# Altium schematic symbol library Interface_I2C.SchLib: 424 symbols (part 10 of 23)
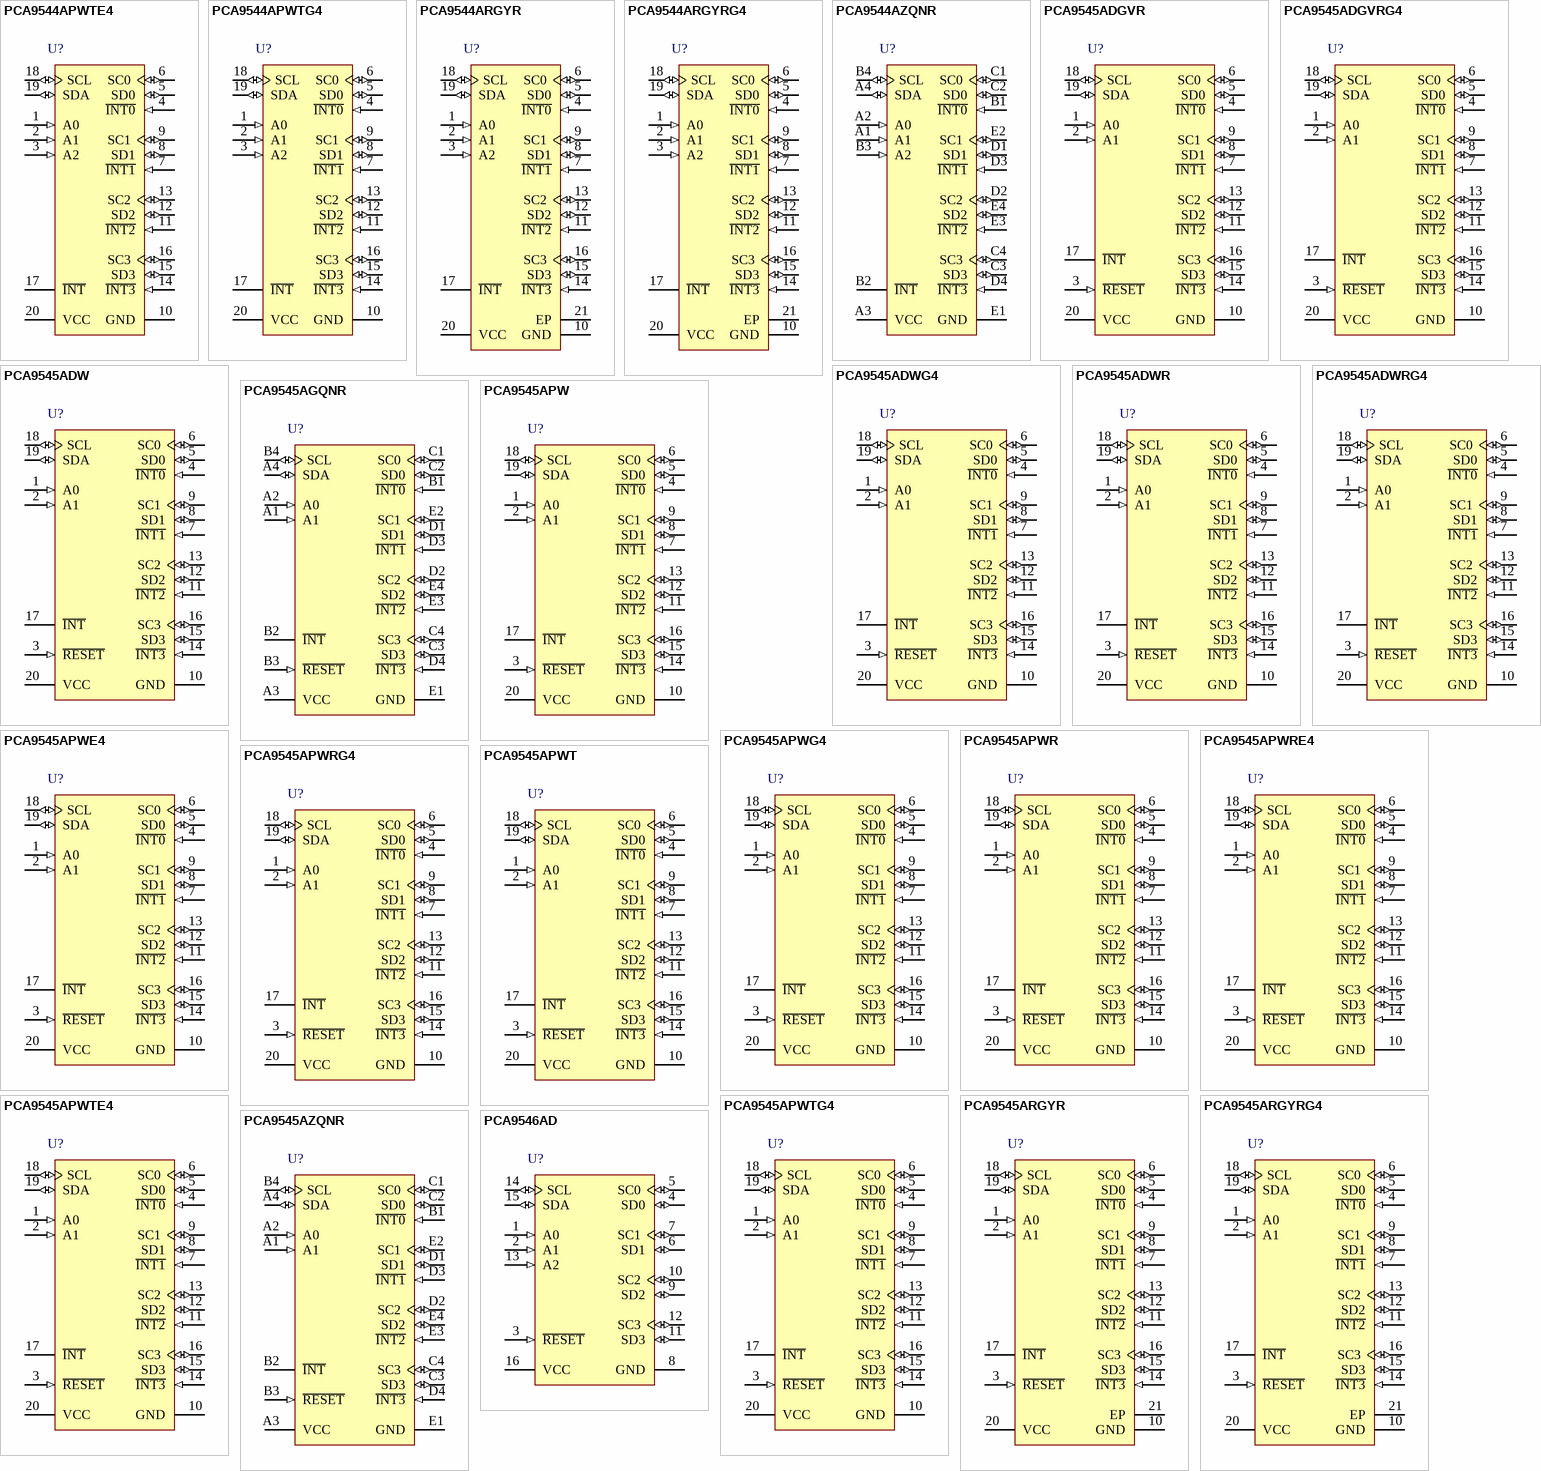
[diagram p22: symbols PCA9544APWTE4 to PCA9546AD]

## PCA9545APW
designator U?
4-Channel I2C and SMBus Multiplexer with Interrupt Logic and Reset Functions, 2.3 to 5.5 V, -40 to 85 degC, 20-pin TSSOP (PW), Green (RoHS & no Sb/Br); Manufacturer: Texas Instruments; PartNumber: PCA9545APW; SubFamily: I2C Multiplexer, Switch; tpd max(ns): 1; Interrupt Output: Yes; fSCLK(Max)(MHz): 400; VCC(Min)(V): 2.3; VCC(Max)(V): 5.5; I2C Address: 1110 0xx; Channel Width: 4; Simultaneously Active Channels: 1 to 4; DatasheetVersion: SCPS147C; PackageVersion: revG, Feb-2011; PackageReference: PW20; PackageDescription: 20-Pin Plastic Thin Small Outline Package 6.5 x 4.4 mm Body ,0.65 mm Pitch; Supplier 1: Digi-Key; Supplier Part Number 1: PCA9545APWTI-ND; Supplier 2: Farnell; Supplier Part Number 2: 1652260; Supplier 3: Newark; Supplier Part Number 3: 66K4030; Supplier 4: Mouser; Supplier Part Number 4: 595-PCA9545APW; Eco-Plan: Green (RoHS & no Sb/Br); Max Frequency(kHz): 400; Vcc range(V): 2.3 to 5.5; Reset Input: Yes; 5V Tolerant I/O: Yes; Open Drain I/O Type: Yes; Mounting Technology: Surface Mount; Code_JEDEC: MO-153; ComponentLink1Description: Datasheet; ComponentLink1URL: http://www.ti.com/general/docs/lit/getliterature.tsp?genericPartNumber=PCA9545A&fileType=pdf
footprint PW20_N (TSOP, 20-Leads, Body 6.5x4.4mm, Pitch 0.65mm, IPC Medium Density)
footprint PW20_L (TSOP, 20-Leads, Body 6.5x4.4mm, Pitch 0.65mm, IPC High Density)
footprint PW20_M (TSOP, 20-Leads, Body 6.5x4.4mm, Pitch 0.65mm, IPC Low Density)
pins: 1 A0 (in) "Address input 0. Connect directly to VCC or ground.", 2 A1 (in) "Address input 1. Connect directly to VCC or ground.", 3 ~{RESET} (in) "Active-low reset input. Connect to VCC through a pullup resistor, if not used.", 4 ~{INT0} (in) "Active-low interrupt input 0. Connect to VCC through a pullup resistor.", 5 SD0 (io) "Serial data 0. Connect to VCC through a pullup resistor.", 6 SC0 (io) "Serial clock 0. Connect to VCC through a pullup resistor.", 7 ~{INT1} (in) "Active-low interrupt input 1. Connect to VCC through a pullup resistor.", 8 SD1 (io) "Serial data 1. Connect to VCC through a pullup resistor.", 9 SC1 (io) "Serial clock 1. Connect to VCC through a pullup resistor.", 10 GND (power) "Ground", 11 ~{INT2} (in) "Active-low interrupt input 2. Connect to VCC through a pullup resistor.", 12 SD2 (io) "Serial data 2. Connect to VCC through a pullup resistor.", 13 SC2 (io) "Serial clock 2. Connect to VCC through a pullup resistor.", 14 ~{INT3} (in) "Active-low interrupt input 3. Connect to VCC through a pullup resistor.", 15 SD3 (io) "Serial data 3. Connect to VCC through a pullup resistor.", 16 SC3 (io) "Serial clock 3. Connect to VCC through a pullup resistor.", 17 ~{INT} (oc) "Active-low interrupt output. Connect to VCC through a pullup resistor.", 18 SCL (io) "Serial clock line. Connect to VCC through a pullup resistor.", 19 SDA (io) "Serial data line. Connect to VCC through a pullup resistor.", 20 VCC (power) "Supply power"

## PCA9545APWE4
designator U?
4-Channel I2C and SMBus Multiplexer with Interrupt Logic and Reset Functions, 2.3 to 5.5 V, -40 to 85 degC, 20-pin TSSOP (PW), Green (RoHS & no Sb/Br); Manufacturer: Texas Instruments; PartNumber: PCA9545APWE4; SubFamily: I2C Multiplexer, Switch; tpd max(ns): 1; Interrupt Output: Yes; fSCLK(Max)(MHz): 400; VCC(Min)(V): 2.3; VCC(Max)(V): 5.5; I2C Address: 1110 0xx; Channel Width: 4; Simultaneously Active Channels: 1 to 4; DatasheetVersion: SCPS147C; PackageVersion: revG, Feb-2011; PackageReference: PW20; PackageDescription: 20-Pin Plastic Thin Small Outline Package 6.5 x 4.4 mm Body ,0.65 mm Pitch; Supplier 1: Digi-Key; Supplier Part Number 1: PCA9545APWE4-ND; Supplier 2: Mouser; Supplier Part Number 2: 595-PCA9545APWE4; Eco-Plan: Green (RoHS & no Sb/Br); Max Frequency(kHz): 400; Vcc range(V): 2.3 to 5.5; Reset Input: Yes; 5V Tolerant I/O: Yes; Open Drain I/O Type: Yes; Mounting Technology: Surface Mount; Code_JEDEC: MO-153; ComponentLink1Description: Datasheet; ComponentLink1URL: http://www.ti.com/general/docs/lit/getliterature.tsp?genericPartNumber=PCA9545A&fileType=pdf
footprint PW20_N (TSOP, 20-Leads, Body 6.5x4.4mm, Pitch 0.65mm, IPC Medium Density)
footprint PW20_L (TSOP, 20-Leads, Body 6.5x4.4mm, Pitch 0.65mm, IPC High Density)
footprint PW20_M (TSOP, 20-Leads, Body 6.5x4.4mm, Pitch 0.65mm, IPC Low Density)
pins: 1 A0 (in) "Address input 0. Connect directly to VCC or ground.", 2 A1 (in) "Address input 1. Connect directly to VCC or ground.", 3 ~{RESET} (in) "Active-low reset input. Connect to VCC through a pullup resistor, if not used.", 4 ~{INT0} (in) "Active-low interrupt input 0. Connect to VCC through a pullup resistor.", 5 SD0 (io) "Serial data 0. Connect to VCC through a pullup resistor.", 6 SC0 (io) "Serial clock 0. Connect to VCC through a pullup resistor.", 7 ~{INT1} (in) "Active-low interrupt input 1. Connect to VCC through a pullup resistor.", 8 SD1 (io) "Serial data 1. Connect to VCC through a pullup resistor.", 9 SC1 (io) "Serial clock 1. Connect to VCC through a pullup resistor.", 10 GND (power) "Ground", 11 ~{INT2} (in) "Active-low interrupt input 2. Connect to VCC through a pullup resistor.", 12 SD2 (io) "Serial data 2. Connect to VCC through a pullup resistor.", 13 SC2 (io) "Serial clock 2. Connect to VCC through a pullup resistor.", 14 ~{INT3} (in) "Active-low interrupt input 3. Connect to VCC through a pullup resistor.", 15 SD3 (io) "Serial data 3. Connect to VCC through a pullup resistor.", 16 SC3 (io) "Serial clock 3. Connect to VCC through a pullup resistor.", 17 ~{INT} (oc) "Active-low interrupt output. Connect to VCC through a pullup resistor.", 18 SCL (io) "Serial clock line. Connect to VCC through a pullup resistor.", 19 SDA (io) "Serial data line. Connect to VCC through a pullup resistor.", 20 VCC (power) "Supply power"

## PCA9545APWG4
designator U?
4-Channel I2C and SMBus Multiplexer with Interrupt Logic and Reset Functions, 2.3 to 5.5 V, -40 to 85 degC, 20-pin TSSOP (PW), Green (RoHS & no Sb/Br); Manufacturer: Texas Instruments; PartNumber: PCA9545APWG4; SubFamily: I2C Multiplexer, Switch; tpd max(ns): 1; Interrupt Output: Yes; fSCLK(Max)(MHz): 400; VCC(Min)(V): 2.3; VCC(Max)(V): 5.5; I2C Address: 1110 0xx; Channel Width: 4; Simultaneously Active Channels: 1 to 4; DatasheetVersion: SCPS147C; PackageVersion: revG, Feb-2011; PackageReference: PW20; PackageDescription: 20-Pin Plastic Thin Small Outline Package 6.5 x 4.4 mm Body ,0.65 mm Pitch; Supplier 1: Digi-Key; Supplier Part Number 1: PCA9545APWG4-ND; Supplier 2: Mouser; Supplier Part Number 2: 595-PCA9545APWG4; Eco-Plan: Green (RoHS & no Sb/Br); Max Frequency(kHz): 400; Vcc range(V): 2.3 to 5.5; Reset Input: Yes; 5V Tolerant I/O: Yes; Open Drain I/O Type: Yes; Mounting Technology: Surface Mount; Code_JEDEC: MO-153; ComponentLink1Description: Datasheet; ComponentLink1URL: http://www.ti.com/general/docs/lit/getliterature.tsp?genericPartNumber=PCA9545A&fileType=pdf
footprint PW20_N (TSOP, 20-Leads, Body 6.5x4.4mm, Pitch 0.65mm, IPC Medium Density)
footprint PW20_L (TSOP, 20-Leads, Body 6.5x4.4mm, Pitch 0.65mm, IPC High Density)
footprint PW20_M (TSOP, 20-Leads, Body 6.5x4.4mm, Pitch 0.65mm, IPC Low Density)
pins: 1 A0 (in) "Address input 0. Connect directly to VCC or ground.", 2 A1 (in) "Address input 1. Connect directly to VCC or ground.", 3 ~{RESET} (in) "Active-low reset input. Connect to VCC through a pullup resistor, if not used.", 4 ~{INT0} (in) "Active-low interrupt input 0. Connect to VCC through a pullup resistor.", 5 SD0 (io) "Serial data 0. Connect to VCC through a pullup resistor.", 6 SC0 (io) "Serial clock 0. Connect to VCC through a pullup resistor.", 7 ~{INT1} (in) "Active-low interrupt input 1. Connect to VCC through a pullup resistor.", 8 SD1 (io) "Serial data 1. Connect to VCC through a pullup resistor.", 9 SC1 (io) "Serial clock 1. Connect to VCC through a pullup resistor.", 10 GND (power) "Ground", 11 ~{INT2} (in) "Active-low interrupt input 2. Connect to VCC through a pullup resistor.", 12 SD2 (io) "Serial data 2. Connect to VCC through a pullup resistor.", 13 SC2 (io) "Serial clock 2. Connect to VCC through a pullup resistor.", 14 ~{INT3} (in) "Active-low interrupt input 3. Connect to VCC through a pullup resistor.", 15 SD3 (io) "Serial data 3. Connect to VCC through a pullup resistor.", 16 SC3 (io) "Serial clock 3. Connect to VCC through a pullup resistor.", 17 ~{INT} (oc) "Active-low interrupt output. Connect to VCC through a pullup resistor.", 18 SCL (io) "Serial clock line. Connect to VCC through a pullup resistor.", 19 SDA (io) "Serial data line. Connect to VCC through a pullup resistor.", 20 VCC (power) "Supply power"

## PCA9545APWR
designator U?
4-Channel I2C and SMBus Multiplexer with Interrupt Logic and Reset Functions, 2.3 to 5.5 V, -40 to 85 degC, 20-pin TSSOP (PW), Green (RoHS & no Sb/Br); Manufacturer: Texas Instruments; PartNumber: PCA9545APWR; SubFamily: I2C Multiplexer, Switch; tpd max(ns): 1; Interrupt Output: Yes; fSCLK(Max)(MHz): 400; VCC(Min)(V): 2.3; VCC(Max)(V): 5.5; I2C Address: 1110 0xx; Channel Width: 4; Simultaneously Active Channels: 1 to 4; DatasheetVersion: SCPS147C; PackageVersion: revG, Feb-2011; PackageReference: PW20; PackageDescription: 20-Pin Plastic Thin Small Outline Package 6.5 x 4.4 mm Body ,0.65 mm Pitch; Supplier 1: Digi-Key; Supplier Part Number 1: 296-20963-2-ND; Supplier 2: Digi-Key; Supplier Part Number 2: 296-20963-1-ND; Supplier 3: Digi-Key; Supplier Part Number 3: 296-20963-6-ND; Supplier 4: Newark; Supplier Part Number 4: 66K4031; Supplier 5: Mouser; Supplier Part Number 5: 595-PCA9545APWR; Eco-Plan: Green (RoHS & no Sb/Br); Max Frequency(kHz): 400; Vcc range(V): 2.3 to 5.5; Reset Input: Yes; 5V Tolerant I/O: Yes; Open Drain I/O Type: Yes; Mounting Technology: Surface Mount; Code_JEDEC: MO-153; ComponentLink1Description: Datasheet; ComponentLink1URL: http://www.ti.com/general/docs/lit/getliterature.tsp?genericPartNumber=PCA9545A&fileType=pdf
footprint PW20_N (TSOP, 20-Leads, Body 6.5x4.4mm, Pitch 0.65mm, IPC Medium Density)
footprint PW20_L (TSOP, 20-Leads, Body 6.5x4.4mm, Pitch 0.65mm, IPC High Density)
footprint PW20_M (TSOP, 20-Leads, Body 6.5x4.4mm, Pitch 0.65mm, IPC Low Density)
pins: 1 A0 (in) "Address input 0. Connect directly to VCC or ground.", 2 A1 (in) "Address input 1. Connect directly to VCC or ground.", 3 ~{RESET} (in) "Active-low reset input. Connect to VCC through a pullup resistor, if not used.", 4 ~{INT0} (in) "Active-low interrupt input 0. Connect to VCC through a pullup resistor.", 5 SD0 (io) "Serial data 0. Connect to VCC through a pullup resistor.", 6 SC0 (io) "Serial clock 0. Connect to VCC through a pullup resistor.", 7 ~{INT1} (in) "Active-low interrupt input 1. Connect to VCC through a pullup resistor.", 8 SD1 (io) "Serial data 1. Connect to VCC through a pullup resistor.", 9 SC1 (io) "Serial clock 1. Connect to VCC through a pullup resistor.", 10 GND (power) "Ground", 11 ~{INT2} (in) "Active-low interrupt input 2. Connect to VCC through a pullup resistor.", 12 SD2 (io) "Serial data 2. Connect to VCC through a pullup resistor.", 13 SC2 (io) "Serial clock 2. Connect to VCC through a pullup resistor.", 14 ~{INT3} (in) "Active-low interrupt input 3. Connect to VCC through a pullup resistor.", 15 SD3 (io) "Serial data 3. Connect to VCC through a pullup resistor.", 16 SC3 (io) "Serial clock 3. Connect to VCC through a pullup resistor.", 17 ~{INT} (oc) "Active-low interrupt output. Connect to VCC through a pullup resistor.", 18 SCL (io) "Serial clock line. Connect to VCC through a pullup resistor.", 19 SDA (io) "Serial data line. Connect to VCC through a pullup resistor.", 20 VCC (power) "Supply power"

## PCA9545APWRE4
designator U?
4-Channel I2C and SMBus Multiplexer with Interrupt Logic and Reset Functions, 2.3 to 5.5 V, -40 to 85 degC, 20-pin TSSOP (PW), Green (RoHS & no Sb/Br); Manufacturer: Texas Instruments; PartNumber: PCA9545APWRE4; SubFamily: I2C Multiplexer, Switch; tpd max(ns): 1; Interrupt Output: Yes; fSCLK(Max)(MHz): 400; VCC(Min)(V): 2.3; VCC(Max)(V): 5.5; I2C Address: 1110 0xx; Channel Width: 4; Simultaneously Active Channels: 1 to 4; DatasheetVersion: SCPS147C; PackageVersion: revG, Feb-2011; PackageReference: PW20; PackageDescription: 20-Pin Plastic Thin Small Outline Package 6.5 x 4.4 mm Body ,0.65 mm Pitch; Supplier 1: Digi-Key; Supplier Part Number 1: PCA9545APWRE4-ND; Supplier 2: Mouser; Supplier Part Number 2: 595-PCA9545APWRE4; Eco-Plan: Green (RoHS & no Sb/Br); Max Frequency(kHz): 400; Vcc range(V): 2.3 to 5.5; Reset Input: Yes; 5V Tolerant I/O: Yes; Open Drain I/O Type: Yes; Mounting Technology: Surface Mount; Code_JEDEC: MO-153; ComponentLink1Description: Datasheet; ComponentLink1URL: http://www.ti.com/general/docs/lit/getliterature.tsp?genericPartNumber=PCA9545A&fileType=pdf
footprint PW20_N (TSOP, 20-Leads, Body 6.5x4.4mm, Pitch 0.65mm, IPC Medium Density)
footprint PW20_L (TSOP, 20-Leads, Body 6.5x4.4mm, Pitch 0.65mm, IPC High Density)
footprint PW20_M (TSOP, 20-Leads, Body 6.5x4.4mm, Pitch 0.65mm, IPC Low Density)
pins: 1 A0 (in) "Address input 0. Connect directly to VCC or ground.", 2 A1 (in) "Address input 1. Connect directly to VCC or ground.", 3 ~{RESET} (in) "Active-low reset input. Connect to VCC through a pullup resistor, if not used.", 4 ~{INT0} (in) "Active-low interrupt input 0. Connect to VCC through a pullup resistor.", 5 SD0 (io) "Serial data 0. Connect to VCC through a pullup resistor.", 6 SC0 (io) "Serial clock 0. Connect to VCC through a pullup resistor.", 7 ~{INT1} (in) "Active-low interrupt input 1. Connect to VCC through a pullup resistor.", 8 SD1 (io) "Serial data 1. Connect to VCC through a pullup resistor.", 9 SC1 (io) "Serial clock 1. Connect to VCC through a pullup resistor.", 10 GND (power) "Ground", 11 ~{INT2} (in) "Active-low interrupt input 2. Connect to VCC through a pullup resistor.", 12 SD2 (io) "Serial data 2. Connect to VCC through a pullup resistor.", 13 SC2 (io) "Serial clock 2. Connect to VCC through a pullup resistor.", 14 ~{INT3} (in) "Active-low interrupt input 3. Connect to VCC through a pullup resistor.", 15 SD3 (io) "Serial data 3. Connect to VCC through a pullup resistor.", 16 SC3 (io) "Serial clock 3. Connect to VCC through a pullup resistor.", 17 ~{INT} (oc) "Active-low interrupt output. Connect to VCC through a pullup resistor.", 18 SCL (io) "Serial clock line. Connect to VCC through a pullup resistor.", 19 SDA (io) "Serial data line. Connect to VCC through a pullup resistor.", 20 VCC (power) "Supply power"

## PCA9545APWRG4
designator U?
4-Channel I2C and SMBus Multiplexer with Interrupt Logic and Reset Functions, 2.3 to 5.5 V, -40 to 85 degC, 20-pin TSSOP (PW), Green (RoHS & no Sb/Br); Manufacturer: Texas Instruments; PartNumber: PCA9545APWRG4; SubFamily: I2C Multiplexer, Switch; tpd max(ns): 1; Interrupt Output: Yes; fSCLK(Max)(MHz): 400; VCC(Min)(V): 2.3; VCC(Max)(V): 5.5; I2C Address: 1110 0xx; Channel Width: 4; Simultaneously Active Channels: 1 to 4; DatasheetVersion: SCPS147C; PackageVersion: revG, Feb-2011; PackageReference: PW20; PackageDescription: 20-Pin Plastic Thin Small Outline Package 6.5 x 4.4 mm Body ,0.65 mm Pitch; Supplier 1: Digi-Key; Supplier Part Number 1: PCA9545APWRG4-ND; Supplier 2: Mouser; Supplier Part Number 2: 595-PCA9545APWRG4; Eco-Plan: Green (RoHS & no Sb/Br); Max Frequency(kHz): 400; Vcc range(V): 2.3 to 5.5; Reset Input: Yes; 5V Tolerant I/O: Yes; Open Drain I/O Type: Yes; Mounting Technology: Surface Mount; Code_JEDEC: MO-153; ComponentLink1Description: Datasheet; ComponentLink1URL: http://www.ti.com/general/docs/lit/getliterature.tsp?genericPartNumber=PCA9545A&fileType=pdf
footprint PW20_N (TSOP, 20-Leads, Body 6.5x4.4mm, Pitch 0.65mm, IPC Medium Density)
footprint PW20_L (TSOP, 20-Leads, Body 6.5x4.4mm, Pitch 0.65mm, IPC High Density)
footprint PW20_M (TSOP, 20-Leads, Body 6.5x4.4mm, Pitch 0.65mm, IPC Low Density)
pins: 1 A0 (in) "Address input 0. Connect directly to VCC or ground.", 2 A1 (in) "Address input 1. Connect directly to VCC or ground.", 3 ~{RESET} (in) "Active-low reset input. Connect to VCC through a pullup resistor, if not used.", 4 ~{INT0} (in) "Active-low interrupt input 0. Connect to VCC through a pullup resistor.", 5 SD0 (io) "Serial data 0. Connect to VCC through a pullup resistor.", 6 SC0 (io) "Serial clock 0. Connect to VCC through a pullup resistor.", 7 ~{INT1} (in) "Active-low interrupt input 1. Connect to VCC through a pullup resistor.", 8 SD1 (io) "Serial data 1. Connect to VCC through a pullup resistor.", 9 SC1 (io) "Serial clock 1. Connect to VCC through a pullup resistor.", 10 GND (power) "Ground", 11 ~{INT2} (in) "Active-low interrupt input 2. Connect to VCC through a pullup resistor.", 12 SD2 (io) "Serial data 2. Connect to VCC through a pullup resistor.", 13 SC2 (io) "Serial clock 2. Connect to VCC through a pullup resistor.", 14 ~{INT3} (in) "Active-low interrupt input 3. Connect to VCC through a pullup resistor.", 15 SD3 (io) "Serial data 3. Connect to VCC through a pullup resistor.", 16 SC3 (io) "Serial clock 3. Connect to VCC through a pullup resistor.", 17 ~{INT} (oc) "Active-low interrupt output. Connect to VCC through a pullup resistor.", 18 SCL (io) "Serial clock line. Connect to VCC through a pullup resistor.", 19 SDA (io) "Serial data line. Connect to VCC through a pullup resistor.", 20 VCC (power) "Supply power"

## PCA9545APWT
designator U?
4-Channel I2C and SMBus Multiplexer with Interrupt Logic and Reset Functions, 2.3 to 5.5 V, -40 to 85 degC, 20-pin TSSOP (PW), Green (RoHS & no Sb/Br); Manufacturer: Texas Instruments; PartNumber: PCA9545APWT; SubFamily: I2C Multiplexer, Switch; tpd max(ns): 1; Interrupt Output: Yes; fSCLK(Max)(MHz): 400; VCC(Min)(V): 2.3; VCC(Max)(V): 5.5; I2C Address: 1110 0xx; Channel Width: 4; Simultaneously Active Channels: 1 to 4; DatasheetVersion: SCPS147C; PackageVersion: revG, Feb-2011; PackageReference: PW20; PackageDescription: 20-Pin Plastic Thin Small Outline Package 6.5 x 4.4 mm Body ,0.65 mm Pitch; Supplier 1: Digi-Key; Supplier Part Number 1: PCA9545APWT-ND; Supplier 2: Mouser; Supplier Part Number 2: 595-PCA9545APWT; Eco-Plan: Green (RoHS & no Sb/Br); Max Frequency(kHz): 400; Vcc range(V): 2.3 to 5.5; Reset Input: Yes; 5V Tolerant I/O: Yes; Open Drain I/O Type: Yes; Mounting Technology: Surface Mount; Code_JEDEC: MO-153; ComponentLink1Description: Datasheet; ComponentLink1URL: http://www.ti.com/general/docs/lit/getliterature.tsp?genericPartNumber=PCA9545A&fileType=pdf
footprint PW20_N (TSOP, 20-Leads, Body 6.5x4.4mm, Pitch 0.65mm, IPC Medium Density)
footprint PW20_L (TSOP, 20-Leads, Body 6.5x4.4mm, Pitch 0.65mm, IPC High Density)
footprint PW20_M (TSOP, 20-Leads, Body 6.5x4.4mm, Pitch 0.65mm, IPC Low Density)
pins: 1 A0 (in) "Address input 0. Connect directly to VCC or ground.", 2 A1 (in) "Address input 1. Connect directly to VCC or ground.", 3 ~{RESET} (in) "Active-low reset input. Connect to VCC through a pullup resistor, if not used.", 4 ~{INT0} (in) "Active-low interrupt input 0. Connect to VCC through a pullup resistor.", 5 SD0 (io) "Serial data 0. Connect to VCC through a pullup resistor.", 6 SC0 (io) "Serial clock 0. Connect to VCC through a pullup resistor.", 7 ~{INT1} (in) "Active-low interrupt input 1. Connect to VCC through a pullup resistor.", 8 SD1 (io) "Serial data 1. Connect to VCC through a pullup resistor.", 9 SC1 (io) "Serial clock 1. Connect to VCC through a pullup resistor.", 10 GND (power) "Ground", 11 ~{INT2} (in) "Active-low interrupt input 2. Connect to VCC through a pullup resistor.", 12 SD2 (io) "Serial data 2. Connect to VCC through a pullup resistor.", 13 SC2 (io) "Serial clock 2. Connect to VCC through a pullup resistor.", 14 ~{INT3} (in) "Active-low interrupt input 3. Connect to VCC through a pullup resistor.", 15 SD3 (io) "Serial data 3. Connect to VCC through a pullup resistor.", 16 SC3 (io) "Serial clock 3. Connect to VCC through a pullup resistor.", 17 ~{INT} (oc) "Active-low interrupt output. Connect to VCC through a pullup resistor.", 18 SCL (io) "Serial clock line. Connect to VCC through a pullup resistor.", 19 SDA (io) "Serial data line. Connect to VCC through a pullup resistor.", 20 VCC (power) "Supply power"

## PCA9545APWTE4
designator U?
4-Channel I2C and SMBus Multiplexer with Interrupt Logic and Reset Functions, 2.3 to 5.5 V, -40 to 85 degC, 20-pin TSSOP (PW), Green (RoHS & no Sb/Br); Manufacturer: Texas Instruments; PartNumber: PCA9545APWTE4; SubFamily: I2C Multiplexer, Switch; tpd max(ns): 1; Interrupt Output: Yes; fSCLK(Max)(MHz): 400; VCC(Min)(V): 2.3; VCC(Max)(V): 5.5; I2C Address: 1110 0xx; Channel Width: 4; Simultaneously Active Channels: 1 to 4; DatasheetVersion: SCPS147C; PackageVersion: revG, Feb-2011; PackageReference: PW20; PackageDescription: 20-Pin Plastic Thin Small Outline Package 6.5 x 4.4 mm Body ,0.65 mm Pitch; Supplier 1: Digi-Key; Supplier Part Number 1: PCA9545APWTE4-ND; Supplier 2: Mouser; Supplier Part Number 2: 595-PCA9545APWTE4; Eco-Plan: Green (RoHS & no Sb/Br); Max Frequency(kHz): 400; Vcc range(V): 2.3 to 5.5; Reset Input: Yes; 5V Tolerant I/O: Yes; Open Drain I/O Type: Yes; Mounting Technology: Surface Mount; Code_JEDEC: MO-153; ComponentLink1Description: Datasheet; ComponentLink1URL: http://www.ti.com/general/docs/lit/getliterature.tsp?genericPartNumber=PCA9545A&fileType=pdf
footprint PW20_N (TSOP, 20-Leads, Body 6.5x4.4mm, Pitch 0.65mm, IPC Medium Density)
footprint PW20_L (TSOP, 20-Leads, Body 6.5x4.4mm, Pitch 0.65mm, IPC High Density)
footprint PW20_M (TSOP, 20-Leads, Body 6.5x4.4mm, Pitch 0.65mm, IPC Low Density)
pins: 1 A0 (in) "Address input 0. Connect directly to VCC or ground.", 2 A1 (in) "Address input 1. Connect directly to VCC or ground.", 3 ~{RESET} (in) "Active-low reset input. Connect to VCC through a pullup resistor, if not used.", 4 ~{INT0} (in) "Active-low interrupt input 0. Connect to VCC through a pullup resistor.", 5 SD0 (io) "Serial data 0. Connect to VCC through a pullup resistor.", 6 SC0 (io) "Serial clock 0. Connect to VCC through a pullup resistor.", 7 ~{INT1} (in) "Active-low interrupt input 1. Connect to VCC through a pullup resistor.", 8 SD1 (io) "Serial data 1. Connect to VCC through a pullup resistor.", 9 SC1 (io) "Serial clock 1. Connect to VCC through a pullup resistor.", 10 GND (power) "Ground", 11 ~{INT2} (in) "Active-low interrupt input 2. Connect to VCC through a pullup resistor.", 12 SD2 (io) "Serial data 2. Connect to VCC through a pullup resistor.", 13 SC2 (io) "Serial clock 2. Connect to VCC through a pullup resistor.", 14 ~{INT3} (in) "Active-low interrupt input 3. Connect to VCC through a pullup resistor.", 15 SD3 (io) "Serial data 3. Connect to VCC through a pullup resistor.", 16 SC3 (io) "Serial clock 3. Connect to VCC through a pullup resistor.", 17 ~{INT} (oc) "Active-low interrupt output. Connect to VCC through a pullup resistor.", 18 SCL (io) "Serial clock line. Connect to VCC through a pullup resistor.", 19 SDA (io) "Serial data line. Connect to VCC through a pullup resistor.", 20 VCC (power) "Supply power"

## PCA9545APWTG4
designator U?
4-Channel I2C and SMBus Multiplexer with Interrupt Logic and Reset Functions, 2.3 to 5.5 V, -40 to 85 degC, 20-pin TSSOP (PW), Green (RoHS & no Sb/Br); Manufacturer: Texas Instruments; PartNumber: PCA9545APWTG4; SubFamily: I2C Multiplexer, Switch; tpd max(ns): 1; Interrupt Output: Yes; fSCLK(Max)(MHz): 400; VCC(Min)(V): 2.3; VCC(Max)(V): 5.5; I2C Address: 1110 0xx; Channel Width: 4; Simultaneously Active Channels: 1 to 4; DatasheetVersion: SCPS147C; PackageVersion: revG, Feb-2011; PackageReference: PW20; PackageDescription: 20-Pin Plastic Thin Small Outline Package 6.5 x 4.4 mm Body ,0.65 mm Pitch; Supplier 1: Digi-Key; Supplier Part Number 1: PCA9545APWTG4-ND; Supplier 2: Mouser; Supplier Part Number 2: 595-PCA9545APWTG4; Eco-Plan: Green (RoHS & no Sb/Br); Max Frequency(kHz): 400; Vcc range(V): 2.3 to 5.5; Reset Input: Yes; 5V Tolerant I/O: Yes; Open Drain I/O Type: Yes; Mounting Technology: Surface Mount; Code_JEDEC: MO-153; ComponentLink1Description: Datasheet; ComponentLink1URL: http://www.ti.com/general/docs/lit/getliterature.tsp?genericPartNumber=PCA9545A&fileType=pdf
footprint PW20_N (TSOP, 20-Leads, Body 6.5x4.4mm, Pitch 0.65mm, IPC Medium Density)
footprint PW20_L (TSOP, 20-Leads, Body 6.5x4.4mm, Pitch 0.65mm, IPC High Density)
footprint PW20_M (TSOP, 20-Leads, Body 6.5x4.4mm, Pitch 0.65mm, IPC Low Density)
pins: 1 A0 (in) "Address input 0. Connect directly to VCC or ground.", 2 A1 (in) "Address input 1. Connect directly to VCC or ground.", 3 ~{RESET} (in) "Active-low reset input. Connect to VCC through a pullup resistor, if not used.", 4 ~{INT0} (in) "Active-low interrupt input 0. Connect to VCC through a pullup resistor.", 5 SD0 (io) "Serial data 0. Connect to VCC through a pullup resistor.", 6 SC0 (io) "Serial clock 0. Connect to VCC through a pullup resistor.", 7 ~{INT1} (in) "Active-low interrupt input 1. Connect to VCC through a pullup resistor.", 8 SD1 (io) "Serial data 1. Connect to VCC through a pullup resistor.", 9 SC1 (io) "Serial clock 1. Connect to VCC through a pullup resistor.", 10 GND (power) "Ground", 11 ~{INT2} (in) "Active-low interrupt input 2. Connect to VCC through a pullup resistor.", 12 SD2 (io) "Serial data 2. Connect to VCC through a pullup resistor.", 13 SC2 (io) "Serial clock 2. Connect to VCC through a pullup resistor.", 14 ~{INT3} (in) "Active-low interrupt input 3. Connect to VCC through a pullup resistor.", 15 SD3 (io) "Serial data 3. Connect to VCC through a pullup resistor.", 16 SC3 (io) "Serial clock 3. Connect to VCC through a pullup resistor.", 17 ~{INT} (oc) "Active-low interrupt output. Connect to VCC through a pullup resistor.", 18 SCL (io) "Serial clock line. Connect to VCC through a pullup resistor.", 19 SDA (io) "Serial data line. Connect to VCC through a pullup resistor.", 20 VCC (power) "Supply power"

## PCA9545ARGYR
designator U?
4-Channel I2C and SMBus Multiplexer with Interrupt Logic and Reset Function, 2.3 to 5.5 V, -40 to 85 degC, 20-pin VQFN (RGY), Green (RoHS & no Sb/Br); Manufacturer: Texas Instruments; PartNumber: PCA9545ARGYR; SubFamily: I2C Multiplexer, Switch; tpd max(ns): 1; Interrupt Output: Yes; fSCLK(Max)(MHz): 400; VCC(Min)(V): 2.3; VCC(Max)(V): 5.5; I2C Address: 1110 0xx; Channel Width: 4; Simultaneously Active Channels: 1 to 4; DatasheetVersion: SCPS147C; PackageVersion: revI, Jun-2011; PackageReference: RGY20-3050X2050TP; PackageDescription: 20-Leads Plastic Quad Flatpack No-Lead, 3.5 x 4.5 x 0.9 mm Body, 0.5 mm Pitch; Supplier 1: Digi-Key; Supplier Part Number 1: 296-20964-2-ND; Supplier 2: Digi-Key; Supplier Part Number 2: 296-20964-1-ND; Supplier 3: Digi-Key; Supplier Part Number 3: 296-20964-6-ND; Supplier 4: Mouser; Supplier Part Number 4: 595-PCA9545ARGYR; Eco-Plan: Green (RoHS & no Sb/Br); Max Frequency(kHz): 400; Vcc range(V): 2.3 to 5.5; Reset Input: Yes; 5V Tolerant I/O: Yes; Open Drain I/O Type: Yes; Mounting Technology: Surface Mount; Code_JEDEC: MO-241-BA; ComponentLink1Description: Datasheet; ComponentLink1URL: http://www.ti.com/general/docs/lit/getliterature.tsp?genericPartNumber=PCA9545A&fileType=pdf; ComponentLink2Description: Package Specification; ComponentLink2URL: http://www.ti.com/litv/pdf/mpss024a
footprint RGY20-3050X2050TP (QFN, 20-Leads, Body 4.5x3.5mm, Pitch 0.5mm, Thermal Pad 3.05x2.05mm, TI Recommended)
pins: 1 A0 (in) "Address input 0. Connect directly to VCC or ground.", 2 A1 (in) "Address input 1. Connect directly to VCC or ground.", 3 ~{RESET} (in) "Active-low reset input. Connect to VCC through a pullup resistor, if not used.", 4 ~{INT0} (in) "Active-low interrupt input 0. Connect to VCC through a pullup resistor.", 5 SD0 (io) "Serial data 0. Connect to VCC through a pullup resistor.", 6 SC0 (io) "Serial clock 0. Connect to VCC through a pullup resistor.", 7 ~{INT1} (in) "Active-low interrupt input 1. Connect to VCC through a pullup resistor.", 8 SD1 (io) "Serial data 1. Connect to VCC through a pullup resistor.", 9 SC1 (io) "Serial clock 1. Connect to VCC through a pullup resistor.", 10 GND (power) "Ground", 11 ~{INT2} (in) "Active-low interrupt input 2. Connect to VCC through a pullup resistor.", 12 SD2 (io) "Serial data 2. Connect to VCC through a pullup resistor.", 13 SC2 (io) "Serial clock 2. Connect to VCC through a pullup resistor.", 14 ~{INT3} (in) "Active-low interrupt input 3. Connect to VCC through a pullup resistor.", 15 SD3 (io) "Serial data 3. Connect to VCC through a pullup resistor.", 16 SC3 (io) "Serial clock 3. Connect to VCC through a pullup resistor.", 17 ~{INT} (oc) "Active-low interrupt output. Connect to VCC through a pullup resistor.", 18 SCL (io) "Serial clock line. Connect to VCC through a pullup resistor.", 19 SDA (io) "Serial data line. Connect to VCC through a pullup resistor.", 20 VCC (power) "Supply power", 21 EP "Exposed Thermal Pad"

## PCA9545ARGYRG4
designator U?
4-Channel I2C and SMBus Multiplexer with Interrupt Logic and Reset Function, 2.3 to 5.5 V, -40 to 85 degC, 20-pin VQFN (RGY), Green (RoHS & no Sb/Br); Manufacturer: Texas Instruments; PartNumber: PCA9545ARGYRG4; SubFamily: I2C Multiplexer, Switch; tpd max(ns): 1; Interrupt Output: Yes; fSCLK(Max)(MHz): 400; VCC(Min)(V): 2.3; VCC(Max)(V): 5.5; I2C Address: 1110 0xx; Channel Width: 4; Simultaneously Active Channels: 1 to 4; DatasheetVersion: SCPS147C; PackageVersion: revI, Jun-2011; PackageReference: RGY20-3050X2050TP; PackageDescription: 20-Leads Plastic Quad Flatpack No-Lead, 3.5 x 4.5 x 0.9 mm Body, 0.5 mm Pitch; Supplier 1: Digi-Key; Supplier Part Number 1: PCA9545ARGYRG4-ND; Supplier 2: Newark; Supplier Part Number 2: 20M5691; Supplier 3: Mouser; Supplier Part Number 3: 595-PCA9545ARGYRG4; Eco-Plan: Green (RoHS & no Sb/Br); Max Frequency(kHz): 400; Vcc range(V): 2.3 to 5.5; Reset Input: Yes; 5V Tolerant I/O: Yes; Open Drain I/O Type: Yes; Mounting Technology: Surface Mount; Code_JEDEC: MO-241-BA; ComponentLink1Description: Datasheet; ComponentLink1URL: http://www.ti.com/general/docs/lit/getliterature.tsp?genericPartNumber=PCA9545A&fileType=pdf; ComponentLink2Description: Package Specification; ComponentLink2URL: http://www.ti.com/litv/pdf/mpss024a
footprint RGY20-3050X2050TP (QFN, 20-Leads, Body 4.5x3.5mm, Pitch 0.5mm, Thermal Pad 3.05x2.05mm, TI Recommended)
pins: 1 A0 (in) "Address input 0. Connect directly to VCC or ground.", 2 A1 (in) "Address input 1. Connect directly to VCC or ground.", 3 ~{RESET} (in) "Active-low reset input. Connect to VCC through a pullup resistor, if not used.", 4 ~{INT0} (in) "Active-low interrupt input 0. Connect to VCC through a pullup resistor.", 5 SD0 (io) "Serial data 0. Connect to VCC through a pullup resistor.", 6 SC0 (io) "Serial clock 0. Connect to VCC through a pullup resistor.", 7 ~{INT1} (in) "Active-low interrupt input 1. Connect to VCC through a pullup resistor.", 8 SD1 (io) "Serial data 1. Connect to VCC through a pullup resistor.", 9 SC1 (io) "Serial clock 1. Connect to VCC through a pullup resistor.", 10 GND (power) "Ground", 11 ~{INT2} (in) "Active-low interrupt input 2. Connect to VCC through a pullup resistor.", 12 SD2 (io) "Serial data 2. Connect to VCC through a pullup resistor.", 13 SC2 (io) "Serial clock 2. Connect to VCC through a pullup resistor.", 14 ~{INT3} (in) "Active-low interrupt input 3. Connect to VCC through a pullup resistor.", 15 SD3 (io) "Serial data 3. Connect to VCC through a pullup resistor.", 16 SC3 (io) "Serial clock 3. Connect to VCC through a pullup resistor.", 17 ~{INT} (oc) "Active-low interrupt output. Connect to VCC through a pullup resistor.", 18 SCL (io) "Serial clock line. Connect to VCC through a pullup resistor.", 19 SDA (io) "Serial data line. Connect to VCC through a pullup resistor.", 20 VCC (power) "Supply power", 21 EP "Exposed Thermal Pad"

## PCA9545AZQNR
designator U?
4-Channel I2C and SMBus Multiplexer with Interrupt Logic and Reset Function, 2.3 to 5.5 V, -40 to 85 degC, 20-pin BGA MICROSTAR JUNIOR (ZQN), Green (RoHS & no Sb/Br); Manufacturer: Texas Instruments; PartNumber: PCA9545AZQNR; SubFamily: I2C Multiplexer, Switch; tpd max(ns): 1; Interrupt Output: Yes; fSCLK(Max)(MHz): 400; VCC(Min)(V): 2.3; VCC(Max)(V): 5.5; I2C Address: 1110 0xx; Channel Width: 4; Simultaneously Active Channels: 1 to 4; DatasheetVersion: SCPS147C; PackageVersion: revC, Jun-2007; PackageReference: ZQN20; PackageDescription: 20-Ball Plastic Ball Grid Array, 4 x 3 mm Body, 0.65 mm Pitch, Pb-Free; Supplier 1: Digi-Key; Supplier Part Number 1: 296-20965-2-ND; Supplier 2: Digi-Key; Supplier Part Number 2: 296-20965-1-ND; Supplier 3: Digi-Key; Supplier Part Number 3: 296-20965-6-ND; Supplier 4: Mouser; Supplier Part Number 4: 595-PCA9545AZQNR; Eco-Plan: Green (RoHS & no Sb/Br); Max Frequency(kHz): 400; Vcc range(V): 2.3 to 5.5; Reset Input: Yes; 5V Tolerant I/O: Yes; Open Drain I/O Type: Yes; Mounting Technology: Surface Mount; Code_JEDEC: MO-285-BC-2; ComponentLink1Description: Datasheet; ComponentLink1URL: http://www.ti.com/general/docs/lit/getliterature.tsp?genericPartNumber=PCA9545A&fileType=pdf; ComponentLink2Description: Package Specification; ComponentLink2URL: http://www.ti.com/litv/pdf/mpds006c
footprint ZQN20 (BGA, 20-Leads, Body 4x3mm, Pitch 0.65mm)
pins: A1 (in) "Address input 1. Connect directly to VCC or ground.", A2 A0 (in) "Address input 0. Connect directly to VCC or ground.", A3 VCC (power) "Supply power", A4 SDA (io) "Serial data line. Connect to VCC through a pullup resistor.", B1 ~{INT0} (in) "Active-low interrupt input 0. Connect to VCC through a pullup resistor.", B2 ~{INT} (oc) "Active-low interrupt output. Connect to VCC through a pullup resistor.", B3 ~{RESET} (in) "Active-low reset input. Connect to VCC through a pullup resistor, if not used.", B4 SCL (io) "Serial clock line. Connect to VCC through a pullup resistor.", C1 SC0 (io) "Serial clock 0. Connect to VCC through a pullup resistor.", C2 SD0 (io) "Serial data 0. Connect to VCC through a pullup resistor.", C3 SD3 (io) "Serial data 3. Connect to VCC through a pullup resistor.", C4 SC3 (io) "Serial clock 3. Connect to VCC through a pullup resistor.", D1 SD1 (io) "Serial data 1. Connect to VCC through a pullup resistor.", D2 SC2 (io) "Serial clock 2. Connect to VCC through a pullup resistor.", D3 ~{INT1} (in) "Active-low interrupt input 1. Connect to VCC through a pullup resistor.", D4 ~{INT3} (in) "Active-low interrupt input 3. Connect to VCC through a pullup resistor.", E1 GND (power) "Ground", E2 SC1 (io) "Serial clock 1. Connect to VCC through a pullup resistor.", E3 ~{INT2} (in) "Active-low interrupt input 2. Connect to VCC through a pullup resistor.", E4 SD2 (io) "Serial data 2. Connect to VCC through a pullup resistor."

## PCA9546AD
designator U?
4-Channel I2C and SMBus Multiplexer with Reset Functions, 2.3 to 5.5 V, -40 to 85 degC, 16-pin SOIC (D), Green (RoHS & no Sb/Br); Manufacturer: Texas Instruments; PartNumber: PCA9546AD; SubFamily: I2C Multiplexer, Switch; tpd max(ns): 0.3, 1; fSCLK(Max)(MHz): 100, 400; VCC(Min)(V): 2.3; VCC(Max)(V): 5.5; Max Frequency(kHz): 400; I2C Address: 1110 xxx; Channel Width: 4; Reset Input: Yes; Simultaneously Active Channels: 1 to 4; DatasheetVersion: SCPS148E; PackageVersion: revM, Jun-2011; PackageReference: D16; PackageDescription: 16-Pin Plastic Small Outline Integrated Circuit, 9.9 x 3.9 mm, Pitch 1.27 mm Pitch; Supplier 1: Digi-Key; Supplier Part Number 1: PCA9546ADTI-ND; Supplier 2: Farnell; Supplier Part Number 2: 1574945; Supplier 3: Newark; Supplier Part Number 3: 06M7565; Supplier 4: Mouser; Supplier Part Number 4: 595-PCA9546AD; Eco-Plan: Green (RoHS & no Sb/Br); Vcc range(V): 2.3 to 5.5; 5V Tolerant I/O: Yes; Open Drain I/O Type: Yes; Mounting Technology: Surface Mount; Code_JEDEC: MS-012AC; ComponentLink1Description: Datasheet; ComponentLink1URL: http://www.ti.com/general/docs/lit/getliterature.tsp?genericPartNumber=PCA9546A&fileType=pdf; ComponentLink2Description: Package Specification; ComponentLink2URL: http://www.ti.com/litv/pdf/mpds178g
footprint D16_N (SOIC, 16-Leads, Body 9.9x3.9mm, Pitch 1.27mm, IPC Medium Density)
footprint D16_L (SOIC, 16-Leads, Body 9.9x3.9mm, Pitch 1.27mm, IPC High Density)
footprint D16_M (SOIC, 16-Leads, Body 9.9x3.9mm, Pitch 1.27mm, IPC Low Density)
pins: 1 A0 (in) "Address input 0. Connect directly to VCC or ground.", 2 A1 (in) "Address input 1. Connect directly to VCC or ground.", 3 ~{RESET} (in) "Active low reset input. Connect to VCC through a pullup resistor, if not used.", 4 SD0 (io) "Serial data 0. Connect to VCC through a pullup resistor.", 5 SC0 (io) "Serial clock 0. Connect to VCC through a pullup resistor.", 6 SD1 (io) "Serial data 1. Connect to VCC through a pullup resistor.", 7 SC1 (io) "Serial clock 1. Connect to VCC through a pullup resistor.", 8 GND (power) "Ground", 9 SD2 (io) "Serial data 2. Connect to VCC through a pullup resistor.", 10 SC2 (io) "Serial clock 2. Connect to VCC through a pullup resistor.", 11 SD3 (io) "Serial data 3. Connect to VCC through a pullup resistor.", 12 SC3 (io) "Serial clock 3. Connect to VCC through a pullup resistor.", 13 A2 (in) "Address input 2. Connect directly to VCC or ground.", 14 SCL (io) "Serial clock line. Connect to VCC through a pullup resistor.", 15 SDA (io) "Serial data line. Connect to VCC through a pullup resistor.", 16 VCC (power) "Supply power"

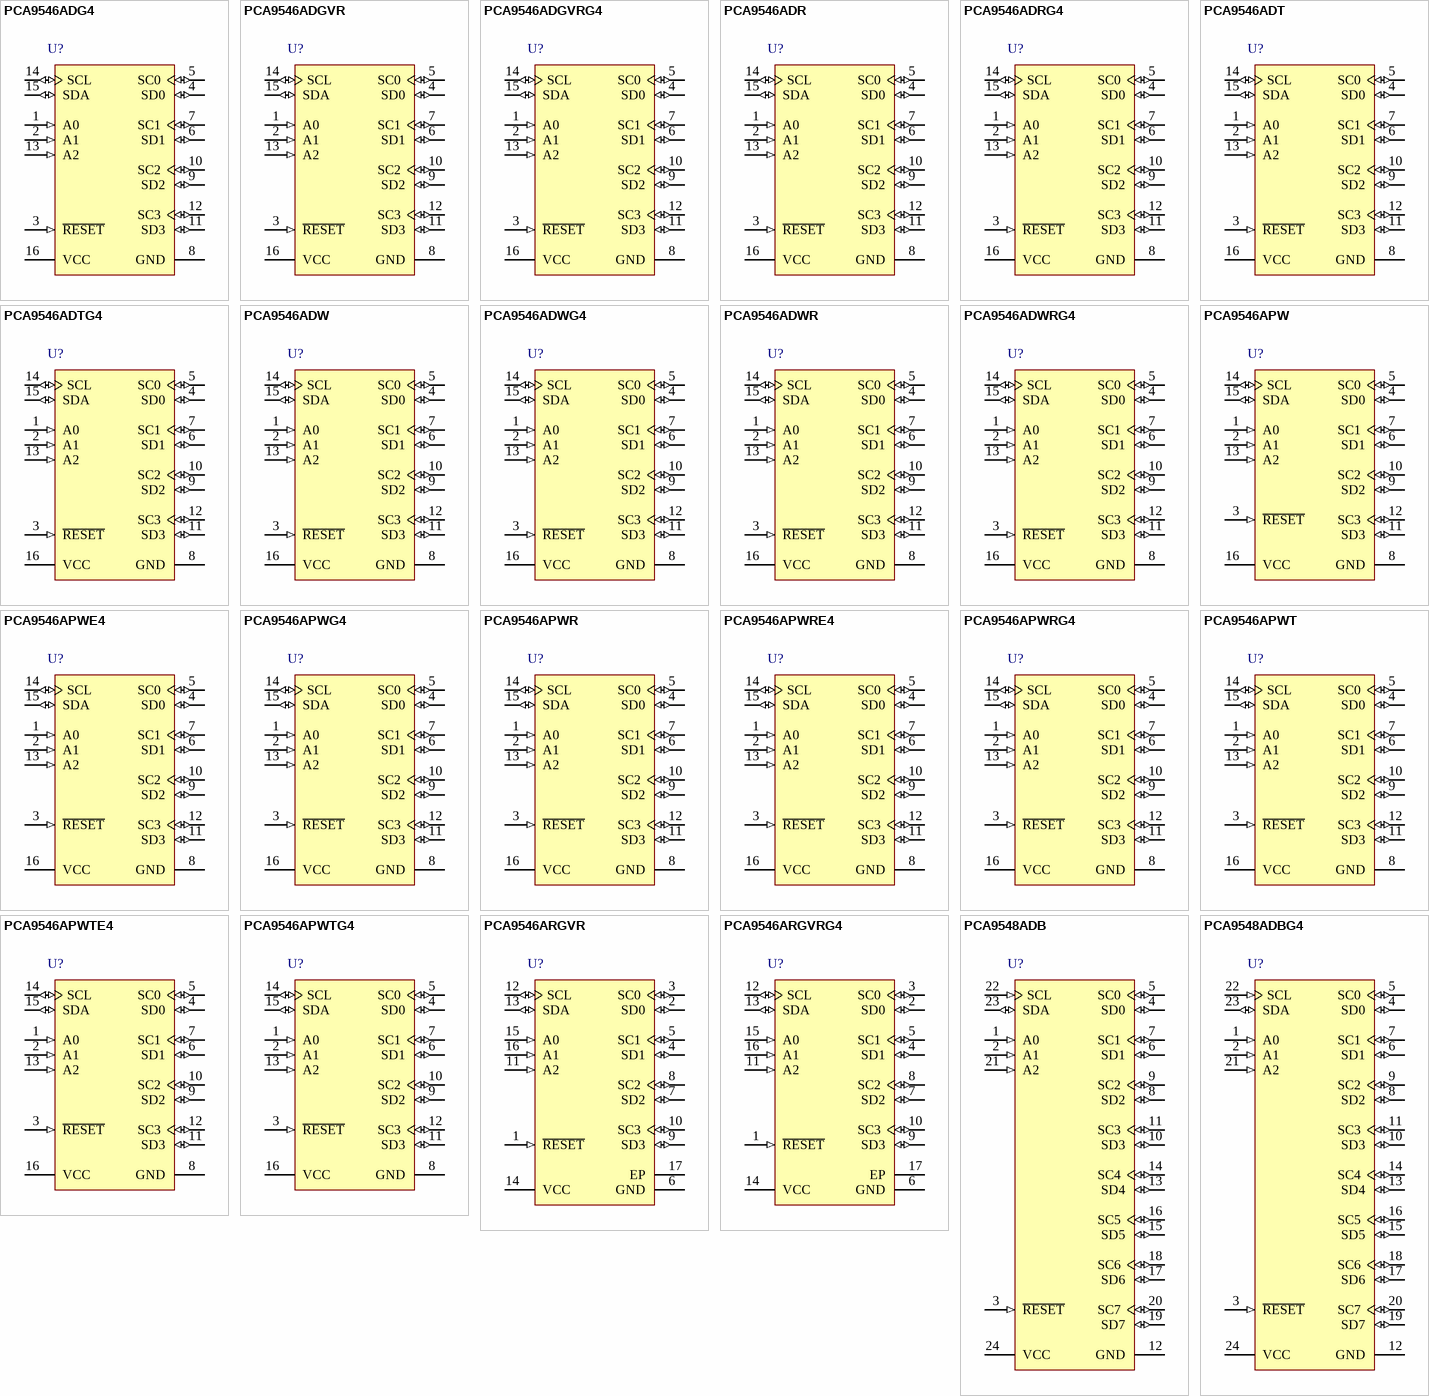
[diagram p6: symbols PCA9546ADG4 to PCA9548ADBG4]

## PCA9546ADG4
designator U?
4-Channel I2C and SMBus Multiplexer with Reset Functions, 2.3 to 5.5 V, -40 to 85 degC, 16-pin SOIC (D), Green (RoHS & no Sb/Br); Manufacturer: Texas Instruments; PartNumber: PCA9546ADG4; SubFamily: I2C Multiplexer, Switch; tpd max(ns): 0.3, 1; fSCLK(Max)(MHz): 100, 400; VCC(Min)(V): 2.3; VCC(Max)(V): 5.5; Max Frequency(kHz): 400; I2C Address: 1110 xxx; Channel Width: 4; Reset Input: Yes; Simultaneously Active Channels: 1 to 4; DatasheetVersion: SCPS148E; PackageVersion: revM, Jun-2011; PackageReference: D16; PackageDescription: 16-Pin Plastic Small Outline Integrated Circuit, 9.9 x 3.9 mm, Pitch 1.27 mm Pitch; Supplier 1: Digi-Key; Supplier Part Number 1: PCA9546ADG4-ND; Supplier 2: Newark; Supplier Part Number 2: 06M7566; Supplier 3: Mouser; Supplier Part Number 3: 595-PCA9546ADG4; Eco-Plan: Green (RoHS & no Sb/Br); Vcc range(V): 2.3 to 5.5; 5V Tolerant I/O: Yes; Open Drain I/O Type: Yes; Mounting Technology: Surface Mount; Code_JEDEC: MS-012AC; ComponentLink1Description: Datasheet; ComponentLink1URL: http://www.ti.com/general/docs/lit/getliterature.tsp?genericPartNumber=PCA9546A&fileType=pdf; ComponentLink2Description: Package Specification; ComponentLink2URL: http://www.ti.com/litv/pdf/mpds178g
footprint D16_N (SOIC, 16-Leads, Body 9.9x3.9mm, Pitch 1.27mm, IPC Medium Density)
footprint D16_L (SOIC, 16-Leads, Body 9.9x3.9mm, Pitch 1.27mm, IPC High Density)
footprint D16_M (SOIC, 16-Leads, Body 9.9x3.9mm, Pitch 1.27mm, IPC Low Density)
pins: 1 A0 (in) "Address input 0. Connect directly to VCC or ground.", 2 A1 (in) "Address input 1. Connect directly to VCC or ground.", 3 ~{RESET} (in) "Active low reset input. Connect to VCC through a pullup resistor, if not used.", 4 SD0 (io) "Serial data 0. Connect to VCC through a pullup resistor.", 5 SC0 (io) "Serial clock 0. Connect to VCC through a pullup resistor.", 6 SD1 (io) "Serial data 1. Connect to VCC through a pullup resistor.", 7 SC1 (io) "Serial clock 1. Connect to VCC through a pullup resistor.", 8 GND (power) "Ground", 9 SD2 (io) "Serial data 2. Connect to VCC through a pullup resistor.", 10 SC2 (io) "Serial clock 2. Connect to VCC through a pullup resistor.", 11 SD3 (io) "Serial data 3. Connect to VCC through a pullup resistor.", 12 SC3 (io) "Serial clock 3. Connect to VCC through a pullup resistor.", 13 A2 (in) "Address input 2. Connect directly to VCC or ground.", 14 SCL (io) "Serial clock line. Connect to VCC through a pullup resistor.", 15 SDA (io) "Serial data line. Connect to VCC through a pullup resistor.", 16 VCC (power) "Supply power"

## PCA9546ADGVR
designator U?
4-Channel I2C and SMBus Multiplexer with Reset Functions, 2.3 to 5.5 V, -40 to 85 degC, 16-pin TVSOP (DGV), Green (RoHS & no Sb/Br); Manufacturer: Texas Instruments; PartNumber: PCA9546ADGVR; SubFamily: I2C Multiplexer, Switch; tpd max(ns): 0.3, 1; fSCLK(Max)(MHz): 100, 400; VCC(Min)(V): 2.3; VCC(Max)(V): 5.5; Max Frequency(kHz): 400; I2C Address: 1110 xxx; Channel Width: 4; Reset Input: Yes; Simultaneously Active Channels: 1 to 4; DatasheetVersion: SCPS148E; PackageVersion: revE, Aug-2000; PackageReference: DGV16; PackageDescription: 16-Pin Thin Shrink Small Outline Package 0.4 mm Pitch; Supplier 1: Digi-Key; Supplier Part Number 1: 296-20966-2-ND; Supplier 2: Digi-Key; Supplier Part Number 2: 296-20966-1-ND; Supplier 3: Digi-Key; Supplier Part Number 3: 296-20966-6-ND; Supplier 4: Mouser; Supplier Part Number 4: 595-PCA9546ADGVR; Eco-Plan: Green (RoHS & no Sb/Br); Vcc range(V): 2.3 to 5.5; 5V Tolerant I/O: Yes; Open Drain I/O Type: Yes; Mounting Technology: Surface Mount; Code_JEDEC: MO-194; ComponentLink1Description: Datasheet; ComponentLink1URL: http://www.ti.com/general/docs/lit/getliterature.tsp?genericPartNumber=PCA9546A&fileType=pdf; ComponentLink2Description: Package Specification; ComponentLink2URL: http://www.ti.com/litv/pdf/msso002e
footprint DGV16_N (TSSOP, 16-Leads, Body 3.6x4.4mm, Pitch 0.4mm, IPC Medium Density)
footprint DGV16_L (TSSOP, 16-Leads, Body 3.6x4.4mm, Pitch 0.4mm, IPC High Density)
footprint DGV16_M (TSSOP, 16-Leads, Body 3.6x4.4mm, Pitch 0.4mm, IPC Low Density)
pins: 1 A0 (in) "Address input 0. Connect directly to VCC or ground.", 2 A1 (in) "Address input 1. Connect directly to VCC or ground.", 3 ~{RESET} (in) "Active low reset input. Connect to VCC through a pullup resistor, if not used.", 4 SD0 (io) "Serial data 0. Connect to VCC through a pullup resistor.", 5 SC0 (io) "Serial clock 0. Connect to VCC through a pullup resistor.", 6 SD1 (io) "Serial data 1. Connect to VCC through a pullup resistor.", 7 SC1 (io) "Serial clock 1. Connect to VCC through a pullup resistor.", 8 GND (power) "Ground", 9 SD2 (io) "Serial data 2. Connect to VCC through a pullup resistor.", 10 SC2 (io) "Serial clock 2. Connect to VCC through a pullup resistor.", 11 SD3 (io) "Serial data 3. Connect to VCC through a pullup resistor.", 12 SC3 (io) "Serial clock 3. Connect to VCC through a pullup resistor.", 13 A2 (in) "Address input 2. Connect directly to VCC or ground.", 14 SCL (io) "Serial clock line. Connect to VCC through a pullup resistor.", 15 SDA (io) "Serial data line. Connect to VCC through a pullup resistor.", 16 VCC (power) "Supply power"

## PCA9546ADGVRG4
designator U?
4-Channel I2C and SMBus Multiplexer with Reset Functions, 2.3 to 5.5 V, -40 to 85 degC, 16-pin TVSOP (DGV), Green (RoHS & no Sb/Br); Manufacturer: Texas Instruments; PartNumber: PCA9546ADGVRG4; SubFamily: I2C Multiplexer, Switch; tpd max(ns): 0.3, 1; fSCLK(Max)(MHz): 100, 400; VCC(Min)(V): 2.3; VCC(Max)(V): 5.5; Max Frequency(kHz): 400; I2C Address: 1110 xxx; Channel Width: 4; Reset Input: Yes; Simultaneously Active Channels: 1 to 4; DatasheetVersion: SCPS148E; PackageVersion: revE, Aug-2000; PackageReference: DGV16; PackageDescription: 16-Pin Thin Shrink Small Outline Package 0.4 mm Pitch; Supplier 1: Digi-Key; Supplier Part Number 1: PCA9546ADGVRG4-ND; Supplier 2: Mouser; Supplier Part Number 2: 595-PCA9546ADGVRG4; Eco-Plan: Green (RoHS & no Sb/Br); Vcc range(V): 2.3 to 5.5; 5V Tolerant I/O: Yes; Open Drain I/O Type: Yes; Mounting Technology: Surface Mount; Code_JEDEC: MO-194; ComponentLink1Description: Datasheet; ComponentLink1URL: http://www.ti.com/general/docs/lit/getliterature.tsp?genericPartNumber=PCA9546A&fileType=pdf; ComponentLink2Description: Package Specification; ComponentLink2URL: http://www.ti.com/litv/pdf/msso002e
footprint DGV16_N (TSSOP, 16-Leads, Body 3.6x4.4mm, Pitch 0.4mm, IPC Medium Density)
footprint DGV16_L (TSSOP, 16-Leads, Body 3.6x4.4mm, Pitch 0.4mm, IPC High Density)
footprint DGV16_M (TSSOP, 16-Leads, Body 3.6x4.4mm, Pitch 0.4mm, IPC Low Density)
pins: 1 A0 (in) "Address input 0. Connect directly to VCC or ground.", 2 A1 (in) "Address input 1. Connect directly to VCC or ground.", 3 ~{RESET} (in) "Active low reset input. Connect to VCC through a pullup resistor, if not used.", 4 SD0 (io) "Serial data 0. Connect to VCC through a pullup resistor.", 5 SC0 (io) "Serial clock 0. Connect to VCC through a pullup resistor.", 6 SD1 (io) "Serial data 1. Connect to VCC through a pullup resistor.", 7 SC1 (io) "Serial clock 1. Connect to VCC through a pullup resistor.", 8 GND (power) "Ground", 9 SD2 (io) "Serial data 2. Connect to VCC through a pullup resistor.", 10 SC2 (io) "Serial clock 2. Connect to VCC through a pullup resistor.", 11 SD3 (io) "Serial data 3. Connect to VCC through a pullup resistor.", 12 SC3 (io) "Serial clock 3. Connect to VCC through a pullup resistor.", 13 A2 (in) "Address input 2. Connect directly to VCC or ground.", 14 SCL (io) "Serial clock line. Connect to VCC through a pullup resistor.", 15 SDA (io) "Serial data line. Connect to VCC through a pullup resistor.", 16 VCC (power) "Supply power"

## PCA9546ADR
designator U?
4-Channel I2C and SMBus Multiplexer with Reset Functions, 2.3 to 5.5 V, -40 to 85 degC, 16-pin SOIC (D), Green (RoHS & no Sb/Br); Manufacturer: Texas Instruments; PartNumber: PCA9546ADR; SubFamily: I2C Multiplexer, Switch; tpd max(ns): 0.3, 1; fSCLK(Max)(MHz): 100, 400; VCC(Min)(V): 2.3; VCC(Max)(V): 5.5; Max Frequency(kHz): 400; I2C Address: 1110 xxx; Channel Width: 4; Reset Input: Yes; Simultaneously Active Channels: 1 to 4; DatasheetVersion: SCPS148E; PackageVersion: revM, Jun-2011; PackageReference: D16; PackageDescription: 16-Pin Plastic Small Outline Integrated Circuit, 9.9 x 3.9 mm, Pitch 1.27 mm Pitch; Supplier 1: Digi-Key; Supplier Part Number 1: 296-21770-2-ND; Supplier 2: Digi-Key; Supplier Part Number 2: 296-21770-1-ND; Supplier 3: Digi-Key; Supplier Part Number 3: 296-21770-6-ND; Supplier 4: Newark; Supplier Part Number 4: 06M7567; Supplier 5: Mouser; Supplier Part Number 5: 595-PCA9546ADR; Eco-Plan: Green (RoHS & no Sb/Br); Vcc range(V): 2.3 to 5.5; 5V Tolerant I/O: Yes; Open Drain I/O Type: Yes; Mounting Technology: Surface Mount; Code_JEDEC: MS-012AC; ComponentLink1Description: Datasheet; ComponentLink1URL: http://www.ti.com/general/docs/lit/getliterature.tsp?genericPartNumber=PCA9546A&fileType=pdf; ComponentLink2Description: Package Specification; ComponentLink2URL: http://www.ti.com/litv/pdf/mpds178g
footprint D16_N (SOIC, 16-Leads, Body 9.9x3.9mm, Pitch 1.27mm, IPC Medium Density)
footprint D16_L (SOIC, 16-Leads, Body 9.9x3.9mm, Pitch 1.27mm, IPC High Density)
footprint D16_M (SOIC, 16-Leads, Body 9.9x3.9mm, Pitch 1.27mm, IPC Low Density)
pins: 1 A0 (in) "Address input 0. Connect directly to VCC or ground.", 2 A1 (in) "Address input 1. Connect directly to VCC or ground.", 3 ~{RESET} (in) "Active low reset input. Connect to VCC through a pullup resistor, if not used.", 4 SD0 (io) "Serial data 0. Connect to VCC through a pullup resistor.", 5 SC0 (io) "Serial clock 0. Connect to VCC through a pullup resistor.", 6 SD1 (io) "Serial data 1. Connect to VCC through a pullup resistor.", 7 SC1 (io) "Serial clock 1. Connect to VCC through a pullup resistor.", 8 GND (power) "Ground", 9 SD2 (io) "Serial data 2. Connect to VCC through a pullup resistor.", 10 SC2 (io) "Serial clock 2. Connect to VCC through a pullup resistor.", 11 SD3 (io) "Serial data 3. Connect to VCC through a pullup resistor.", 12 SC3 (io) "Serial clock 3. Connect to VCC through a pullup resistor.", 13 A2 (in) "Address input 2. Connect directly to VCC or ground.", 14 SCL (io) "Serial clock line. Connect to VCC through a pullup resistor.", 15 SDA (io) "Serial data line. Connect to VCC through a pullup resistor.", 16 VCC (power) "Supply power"